# Altium footprint library JR_main.PcbLib: 8 footprints
Each footprint in its own frame and in the unit in brackets; x right, y up, seen from the top. Pads: shape width x height; smd on the part's side, far side on the other; paste and mask are expansions set on the pad; w line width, h text height; cw(c..) or ccw(c..) is an arc to the next point about the centre after c.
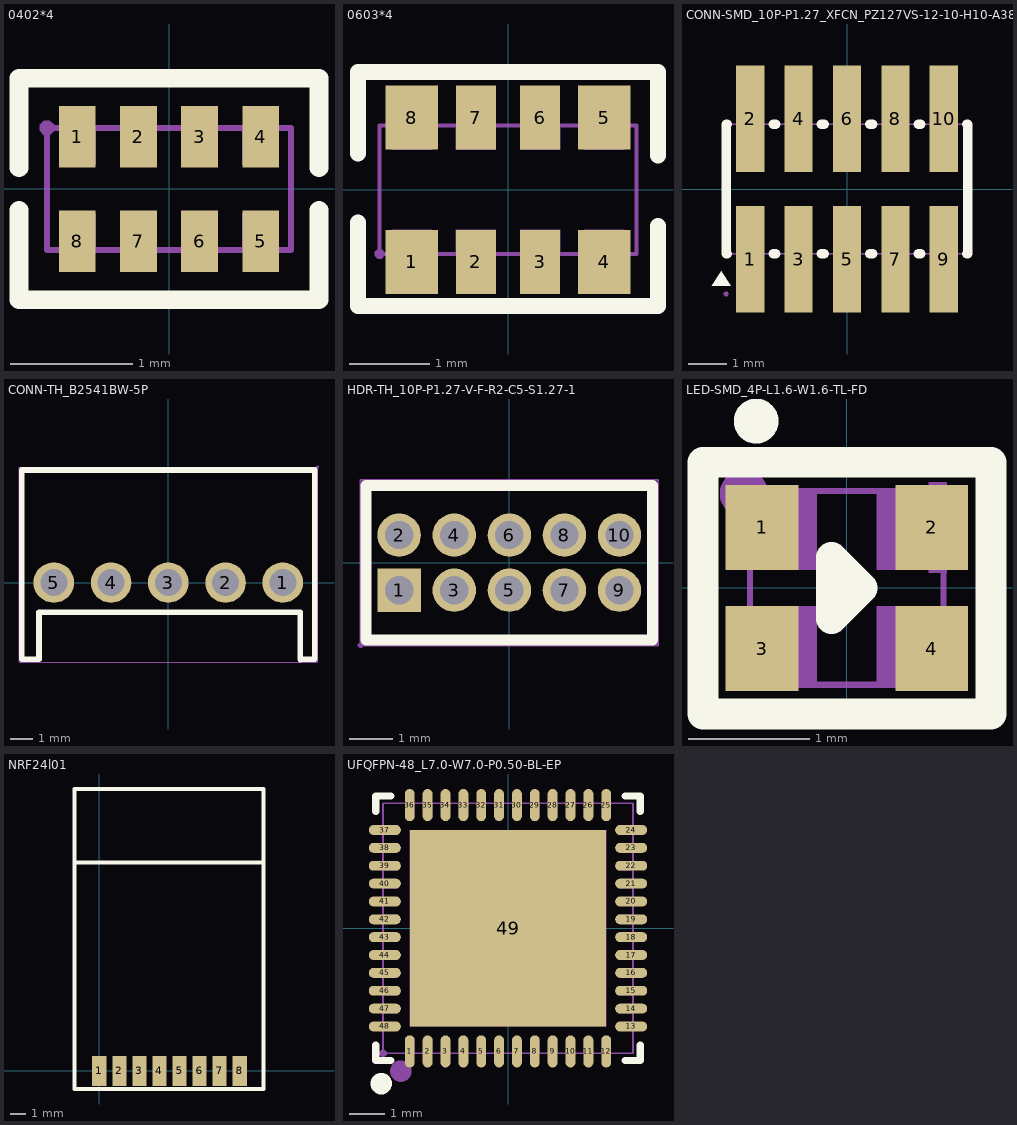
[diagram p0: the footprints below, top view; thin cyan lines are the x and y axes]

## 0402*4 [mm]
pads (8):
  rect 0.3x0.505 smd mask+0.051: 1(-0.75,0.427) 2(-0.25,0.427) 3(0.25,0.427) 4(0.75,0.427) 5(0.75,-0.427) 6(0.25,-0.427) 7(-0.25,-0.427) 8(-0.75,-0.427)
Top Overlay:
  lines w0.152: -1.229,-0.175 -1.229,-0.909 1.229,-0.909 1.229,-0.175 ; -1.229,0.175 -1.229,0.909 1.229,0.909 1.229,0.175
Mechanical 15:
  region: 0.6,-0.5 0.6,-0.2 0.9,-0.2 0.9,-0.5
  region: 0.1,-0.5 0.1,-0.2 0.4,-0.2 0.4,-0.5
  region: -0.4,-0.5 -0.4,-0.2 -0.1,-0.2 -0.1,-0.5
  region: -0.9,-0.5 -0.9,-0.2 -0.6,-0.2 -0.6,-0.5
  region: 0.6,0.5 0.6,0.2 0.9,0.2 0.9,0.5
  region: 0.1,0.5 0.1,0.2 0.4,0.2 0.4,0.5
  region: -0.4,0.5 -0.4,0.2 -0.1,0.2 -0.1,0.5
  region: -0.9,0.5 -0.9,0.2 -0.6,0.2 -0.6,0.5
  region: -0.94,0.5 -0.94,0.525 -0.975,0.56 -1.025,0.56 -1.06,0.525 -1.06,0.5 -1.06,0.475 -1.025,0.44 -0.975,0.44 -0.94,0.475
  lines w0.051: -1,-0.5 1,-0.5 1,0.5 -1,0.5 -1,-0.5

## 0603*4 [mm]
pads (8):
  rect 0.65x0.8 smd mask+0.051: 1(-1.2,-0.9) 4(1.2,-0.9) 5(1.2,0.9) 8(-1.2,0.9)
  rect 0.5x0.8 smd mask+0.051: 2(-0.4,-0.9) 3(0.4,-0.9) 6(0.4,0.9) 7(-0.4,0.9)
Top Overlay:
  lines w0.2: -1.87,-0.41 -1.87,-1.45 1.87,-1.45 1.87,-0.45 ; -1.87,0.45 -1.87,1.47 1.87,1.47 1.87,0.43
Mechanical 15:
  region: -1.54,-0.8 -1.54,-0.775 -1.575,-0.74 -1.625,-0.74 -1.66,-0.775 -1.66,-0.8 -1.66,-0.825 -1.625,-0.86 -1.575,-0.86 -1.54,-0.825
  region: -1.45,-0.8 -1.45,-0.5 -0.95,-0.5 -0.95,-0.8
  region: -1.45,0.5 -1.45,0.8 -0.95,0.8 -0.95,0.5
  region: -0.65,-0.8 -0.65,-0.5 -0.15,-0.5 -0.15,-0.8
  region: 0.15,-0.8 0.15,-0.5 0.65,-0.5 0.65,-0.8
  region: 0.15,0.5 0.15,0.8 0.65,0.8 0.65,0.5
  region: 0.95,-0.8 0.95,-0.5 1.45,-0.5 1.45,-0.8
  region: -0.65,0.5 -0.65,0.8 -0.15,0.8 -0.15,0.5
  region: 0.95,0.5 0.95,0.8 1.45,0.8 1.45,0.5
  lines w0.051: -1.6,-0.8 -1.6,0.8 1.6,0.8 1.6,-0.8 -1.6,-0.8

## CONN-SMD_10P-P1.27_XFCN_PZ127VS-12-10-H10-A38 [mm]
pads (10):
  rect 0.74x2.8 smd mask+0.05: 1(-2.54,-1.85) 2(-2.54,1.85) 3(-1.27,-1.85) 4(-1.27,1.85) 5(0,-1.85) 6(0,1.85) 7(1.27,-1.85) 8(1.27,1.85) 9(2.54,-1.85) 10(2.54,1.85)
Top Overlay:
  region: -3.302,-2.159 -3.556,-2.54 -3.048,-2.54
  lines w0.254: -3.141,-1.7 -3.175,-1.7 -3.175,1.7 -3.141,1.7 ; -1.939,-1.7 -1.871,-1.7 ; -1.939,1.7 -1.871,1.7 ; -0.669,-1.7 -0.601,-1.7 ; -0.669,1.7 -0.601,1.7 ; 0.601,-1.7 0.669,-1.7 ; 0.601,1.7 0.669,1.7 ; 1.871,-1.7 1.939,-1.7 ; 1.871,1.7 1.939,1.7 ; 3.141,-1.7 3.175,-1.7 3.175,1.7 3.141,1.7
Mechanical 15:
  region: -3.115,-2.755 -3.115,-2.73 -3.15,-2.695 -3.2,-2.695 -3.235,-2.73 -3.235,-2.755 -3.235,-2.78 -3.2,-2.815 -3.15,-2.815 -3.115,-2.78
  region: 2.34,2.763 2.74,2.763 2.74,0.643 2.34,0.643
  region: 2.34,-0.635 2.74,-0.635 2.74,-2.755 2.34,-2.755
  region: 1.07,2.763 1.47,2.763 1.47,0.643 1.07,0.643
  region: 1.07,-0.635 1.47,-0.635 1.47,-2.755 1.07,-2.755
  region: -0.2,2.763 0.2,2.763 0.2,0.643 -0.2,0.643
  region: -0.2,-0.635 0.2,-0.635 0.2,-2.755 -0.2,-2.755
  region: -1.47,2.763 -1.07,2.763 -1.07,0.643 -1.47,0.643
  region: -1.47,-0.635 -1.07,-0.635 -1.07,-2.755 -1.47,-2.755
  region: -2.74,2.763 -2.34,2.763 -2.34,0.643 -2.74,0.643
  region: -2.74,-0.635 -2.34,-0.635 -2.34,-2.755 -2.74,-2.755
  lines w0.051: -3.175,-1.7 -3.175,1.7 3.175,1.7 3.175,-1.7 -3.175,-1.7

## CONN-TH_B2541BW-5P [mil]
pads (5):
  round 70.9 hole 47.2 mask+2: 1(200,0) 2(100,0) 3(0,0) 4(-100,0) 5(-200,0)
Top Overlay:
  lines w10: -255.9,-133.9 -255.9,196.9 255.9,196.9 255.9,-133.9 230.7,-134.3 230.7,-52 -226,-52 -226,-133.9 -255.9,-133.9
Mechanical 15:
  region: -180.3,0 -180.3,3.92 -183.3,11.16 -188.84,16.7 -196.08,19.7 -203.92,19.7 -211.16,16.7 -216.7,11.16 -219.7,3.92 -219.7,0 -219.7,-3.92 -216.7,-11.16 -211.16,-16.7 -203.92,-19.7 -196.08,-19.7 -188.84,-16.7 -183.3,-11.16 -180.3,-3.92 -180.3,0
  region: -80.3,0 -80.3,3.92 -83.3,11.16 -88.84,16.7 -96.08,19.7 -103.92,19.7 -111.16,16.7 -116.7,11.16 -119.7,3.92 -119.7,0 -119.7,-3.92 -116.7,-11.16 -111.16,-16.7 -103.92,-19.7 -96.08,-19.7 -88.84,-16.7 -83.3,-11.16 -80.3,-3.92 -80.3,0
  region: 19.7,0 19.7,3.92 16.7,11.16 11.16,16.7 3.92,19.7 -3.92,19.7 -11.16,16.7 -16.7,11.16 -19.7,3.92 -19.7,0 -19.7,-3.92 -16.7,-11.16 -11.16,-16.7 -3.92,-19.7 3.92,-19.7 11.16,-16.7 16.7,-11.16 19.7,-3.92 19.7,0
  region: 119.7,0 119.7,3.92 116.7,11.16 111.16,16.7 103.92,19.7 96.08,19.7 88.84,16.7 83.3,11.16 80.3,3.92 80.3,0 80.3,-3.92 83.3,-11.16 88.84,-16.7 96.08,-19.7 103.92,-19.7 111.16,-16.7 116.7,-11.16 119.7,-3.92 119.7,0
  region: 219.7,0 219.7,3.92 216.7,11.16 211.16,16.7 203.92,19.7 196.08,19.7 188.84,16.7 183.3,11.16 180.3,3.92 180.3,0 180.3,-3.92 183.3,-11.16 188.84,-16.7 196.08,-19.7 203.92,-19.7 211.16,-16.7 216.7,-11.16 219.7,-3.92 219.7,0
  region: 263.3,201.9 263.3,202.89 261.89,204.3 259.91,204.3 258.5,202.89 258.5,201.9 258.5,200.91 259.91,199.5 261.89,199.5 263.3,200.91 263.3,201.9
  lines w2: -260.9,-139.3 260.9,-139.3 260.9,201.9 -260.9,201.9 -260.9,-139.3

## HDR-TH_10P-P1.27-V-F-R2-C5-S1.27-1 [mil]
pads (10):
  rect 39.4x39.4 hole 25.6 mask+2: 1(-100,-25)
  round 39.4 hole 25.6 mask+2: 2(-100,25) 3(-50,-25) 4(-50,25) 5(0,-25) 6(0,25) 7(50,-25) 8(50,25) 9(100,-25) 10(100,25)
Top Overlay:
  lines w10: -130,-70 -130,70 130,70 130,-70 -130,-70
Mechanical 15:
  drawing of 15 lines, arcs and shapes, not listed

## LED-SMD_4P-L1.6-W1.6-TL-FD [mil]
pads (4):
  rect 23.6x27.6 smd mask+2: 1(-27.6,19.7) 2(27.6,19.7) 3(-27.6,-19.7) 4(27.6,-19.7)
Top Overlay:
  circle w10: c-29.5,54.3 r2.3
  lines w10: -46.8,-41 46.9,-41 46.9,40.9 -46.8,40.9 -46.8,-41 ; -5,-10 -5,10 5,0 -5,-10
Mechanical 6:
  circle w7.9: c-33.5,30.7 r3.9
  region: 19.7,22.6 39.4,22.6 39.4,16.7 19.7,16.7
  region: 26.6,34.4 32.5,34.4 32.5,4.9 26.6,4.9
Mechanical 15:
  region: -29.1,31.5 -29.1,32.49 -30.51,33.9 -32.49,33.9 -33.9,32.49 -33.9,31.5 -33.9,30.51 -32.49,29.1 -30.51,29.1 -29.1,30.51
  region: 9.8,31.5 31.5,31.5 31.5,5.9 9.8,5.9
  region: 9.8,-5.9 31.5,-5.9 31.5,-31.5 9.8,-31.5
  region: -31.5,31.5 -9.8,31.5 -9.8,5.9 -31.5,5.9
  region: -31.5,-5.9 -9.8,-5.9 -9.8,-31.5 -31.5,-31.5
  lines w2: -31.5,-31.5 31.5,-31.5 31.5,31.5 -31.5,31.5 -31.5,-31.5

## NRF24l01 [mm]
pads (8):
  rect 0.9x1.9 smd: 1(0,0) 2(1.27,0) 3(2.54,0) 4(3.81,0) 5(5.08,0) 6(6.35,0) 7(7.62,0) 8(8.89,0)
Top Overlay:
  lines w0.254: -1.586,13.208 10.414,13.208 ; -1.586,-1.143 10.414,-1.143 10.414,17.857 -1.586,17.857 -1.586,-1.143

## UFQFPN-48_L7.0-W7.0-P0.50-BL-EP [mil]
pads (49):
  oval 11x35.4 smd mask+2: 1(-108.3,-135.8) 2(-88.6,-135.8) 3(-68.9,-135.8) 4(-49.2,-135.8) 5(-29.5,-135.8) 6(-9.8,-135.8) 7(9.8,-135.8) 8(29.5,-135.8) 9(49.2,-135.8) 10(68.9,-135.8) 11(88.6,-135.8) 12(108.3,-135.8) 25(108.3,135.8) 26(88.6,135.8) 27(68.9,135.8) 28(49.2,135.8) 29(29.5,135.8) 30(9.8,135.8) 31(-9.8,135.8) 32(-29.5,135.8) 33(-49.2,135.8) 34(-68.9,135.8) 35(-88.6,135.8) 36(-108.3,135.8)
  oval 35.4x11 smd mask+2: 13(135.8,-108.3) 14(135.8,-88.6) 15(135.8,-68.9) 16(135.8,-49.2) 17(135.8,-29.5) 18(135.8,-9.8) 19(135.8,9.8) 20(135.8,29.5) 21(135.8,49.2) 22(135.8,68.9) 23(135.8,88.6) 24(135.8,108.3) 37(-135.8,108.3) 38(-135.8,88.6) 39(-135.8,68.9) 40(-135.8,49.2) 41(-135.8,29.5) 42(-135.8,9.8) 43(-135.8,-9.8) 44(-135.8,-29.5) 45(-135.8,-49.2) 46(-135.8,-68.9) 47(-135.8,-88.6) 48(-135.8,-108.3)
  rect 216.5x216.5 smd mask+2: 49(0,0)
Top Overlay:
  lines w7.9: -145.7,-128.9 -145.7,-145.7 -128.9,-145.7 ; -145.7,128.9 -145.7,145.7 -128.9,145.7 ; 128.9,-145.7 145.7,-145.7 145.7,-128.9 ; 128.9,145.7 145.7,145.7 145.7,128.9
  lines w11.8: -139.8,-165.4 ccw(c-139.75,-171.31) -139.7,-165.4
Mechanical 6:
  circle w11.8: c-118.1,-157.5 r5.9
Mechanical 15:
  drawing of 54 lines, arcs and shapes, not listed